# Altium footprint library EMI_FILTER.PcbLib: 28 footprints (part 1 of 2)
Each footprint in its own frame and in the unit in brackets; x right, y up, seen from the top. Pads: shape width x height; smd on the part's side, far side on the other; paste and mask are expansions set on the pad; w line width, h text height; cw(c..) or ccw(c..) is an arc to the next point about the centre after c.
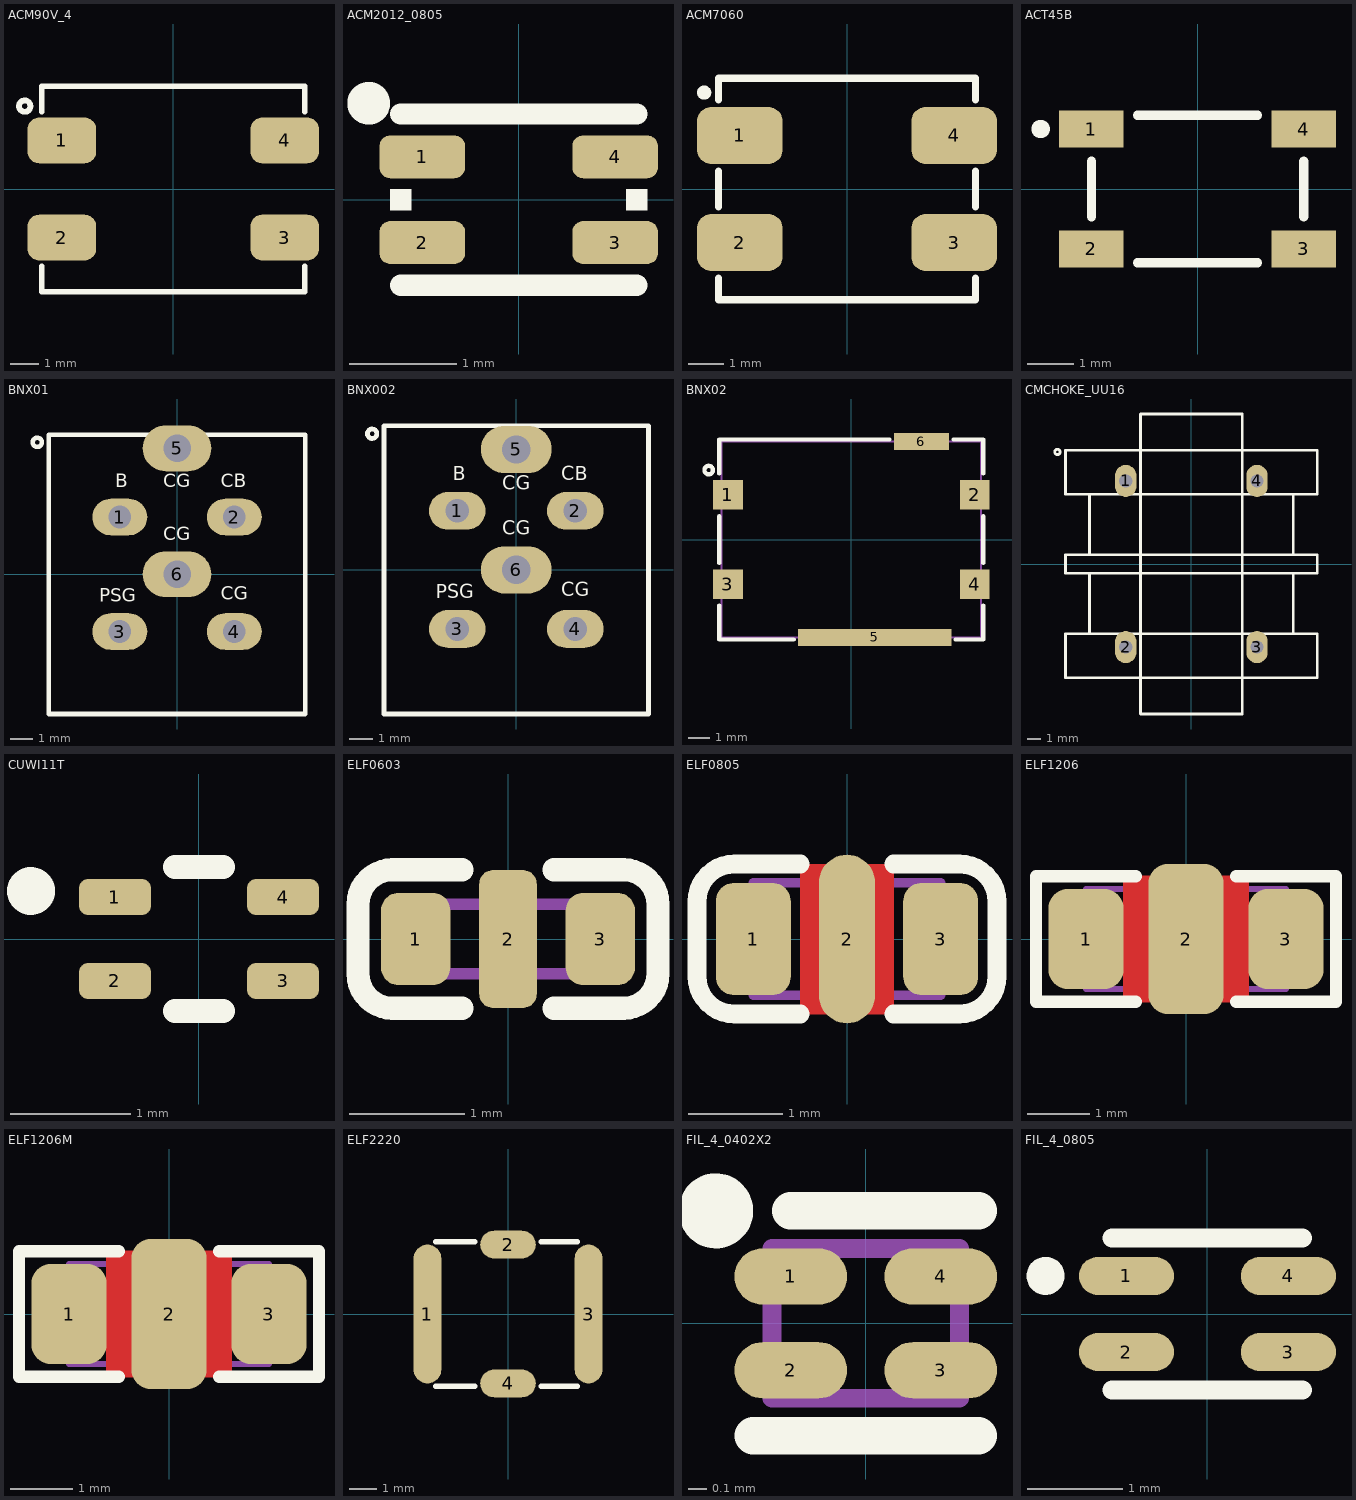
[diagram p0: the footprints below, top view; thin cyan lines are the x and y axes]

## ACM90V_4 [mm] "Common Mode Chokes TDK ACM90V 2x1.2mm"
pads (4):
  rrect50% 2.4x1.6 smd mask+0.1: 1(-3.9,1.7) 2(-3.9,-1.7) 3(3.9,-1.7) 4(3.9,1.7)
Top Overlay:
  circle w0.2: c-5.2,2.9 r0.2
  lines w0.2: -4.6,-2.7 -4.6,-3.6 4.6,-3.6 4.6,-2.7 ; -4.6,2.7 -4.6,3.6 4.6,3.6 4.6,2.7
3D body "User Library-ACM90V-701-2PL-TL00.step": height 3.68, standoff 0.02, extent -4.482,-3.5 4.483,3.5

## ACM2012_0805 [mm] "Common Mode Chokes TDK ACM2012 2x1.2mm"
pads (4):
  rrect50% 0.8x0.4 smd mask+0.1: 1(-0.9,0.4) 2(-0.9,-0.4) 3(0.9,-0.4) 4(0.9,0.4)
Top Overlay:
  circle w0.2: c-1.4,0.9 r0.1
  rectangle: -1.2,-0.1 -1,0.1
  region: 1.2,0.1 1,0.1 1,-0.1 1.2,-0.1
  lines w0.2: -1.1,-0.8 1.1,-0.8 ; -1.1,0.8 1.1,0.8
3D body "User Library-ACM2012-2P.step": height 1.3, standoff 0, extent -1,-0.6 1,0.6

## ACM7060 [mm] "Common Mode Chokes TDK ACM2012 2x1.2mm"
pads (4):
  rrect50% 2.4x1.6 smd mask+0.1: 1(-3,1.5) 2(-3,-1.5) 3(3,-1.5) 4(3,1.5)
Top Overlay:
  circle w0.2: c-4,2.7 r0.1
  lines w0.2: -3.6,-2.5 -3.6,-3.1 3.6,-3.1 3.6,-2.5 ; -3.6,-0.5 -3.6,0.5 ; -3.6,2.5 -3.6,3.1 3.6,3.1 3.6,2.5 ; 3.6,-0.5 3.6,0.5
3D body "ACM7060.step": height 3.5, standoff 0, extent -3.5,-3 3.5,3

## ACT45B [mm] "Common Mode Chokes TDK ACT45B 3.2x4.5mm"
height 2.8
pads (4):
  rect 1.4x0.8 smd: 1(-2.3,1.3) 2(-2.3,-1.3) 3(2.3,-1.3) 4(2.3,1.3)
Top Overlay:
  circle w0.2: c-3.4,1.3 r0.1
  lines w0.2: -2.3,-0.6 -2.3,0.6 ; -1.3,-1.6 1.3,-1.6 ; -1.3,1.6 1.3,1.6 ; 2.3,-0.6 2.3,0.6
3D body "User Library-ACT45B_GERMANY.step": height 3, standoff 0, extent -2.25,-1.6 2.25,1.6

## BNX01 [mm] "MURATA EMIFIL"
height 15
pads (6):
  oval 2.4x1.6 hole 1: 1(-2.5,2.5) 2(2.5,2.5) 3(-2.5,-2.5) 4(2.5,-2.5)
  oval 3x2 hole 1.2: 5(0,5.5) 6(0,0)
Top Overlay:
  circle w0.2: c-6.102,5.764 r0.2
  lines w0.2: -5.6,-6.1 -5.6,6.1 5.6,6.1 5.6,-6.1 -5.6,-6.1
  text "B" at -2.7,3.6 h1
  text "CB" at 1.9,3.6 h1
  text "CG" at 1.9,-1.3 h1
  text "PSG" at -3.4,-1.4 h1
  text "CG" at -0.6,1.3 h1
  text "CG" at -0.6,3.6 h1
3D body "User Library-BNX012-01.step": height 8, standoff -4, extent -5.5,-6 5.5,6

## BNX002 [mm] "MURATA EMIFIL"
height 15
pads (6):
  oval 2.4x1.6 hole 1: 1(-2.5,2.5) 2(2.5,2.5) 3(-2.5,-2.5) 4(2.5,-2.5)
  oval 3x2 hole 1.2: 5(0,5.1) 6(0,0)
Top Overlay:
  circle w0.2: c-6.102,5.764 r0.2
  lines w0.2: -5.6,-6.1 -5.6,6.1 5.6,6.1 5.6,-6.1 -5.6,-6.1
  text "B" at -2.7,3.6 h1
  text "CB" at 1.9,3.6 h1
  text "CG" at 1.9,-1.3 h1
  text "PSG" at -3.4,-1.4 h1
  text "CG" at -0.6,1.3 h1
  text "CG" at -0.6,3.2 h1
3D body "User Library-Murata_BNX002.STEP": height 12.5, standoff -5, extent -5.5,-6 5.5,6

## BNX02 [mm] "MURATA EMIFIL SMD 12.1x9.1x3.5mm, BNX023-01, BNX022"
height 3.1
pads (6):
  rect 1.4x1.4 smd mask+0.1: 1(-5.8,2.1) 2(5.8,2.1) 3(-5.8,-2.1) 4(5.8,-2.1)
  rect 7.2x0.8 smd: 5(1.1,-4.6)
  rect 2.6x0.8 smd: 6(3.3,4.6)
Top Overlay:
  circle w0.2: c-6.702,3.264 r0.2
  lines w0.2: -6.2,-3.1 -6.2,-4.7 -2.7,-4.7 ; -6.2,-1.1 -6.2,1.1 ; -6.2,3.1 -6.2,4.7 1.8,4.7 ; 4.8,4.7 6.2,4.7 6.2,3.1 ; 4.9,-4.7 6.2,-4.7 6.2,-3.1 ; 6.2,-1.1 6.2,1.1
Mechanical 13:
  lines w0.1: -6.1,-4.6 6.1,-4.6 6.1,4.6 -6.1,4.6 -6.1,-4.6
3D body "User Library-BNX022.step": height 3.1, standoff 0, extent -6.05,-4.55 6.05,4.55

## CMCHOKE_UU16 [mm] "COMMON MODE CHOKE, UU16, UT2024"
height 30
pads (4):
  oval 1.6x2.4 hole 1: 1(-4.9,6.2) 2(-4.9,-6.2) 3(4.9,-6.2) 4(4.9,6.2)
Top Overlay:
  circle w0.2: c-10.002,8.364 r0.2
  lines w0.2: -7.6,-5.2 -7.6,-0.7 ; -7.6,-5.2 -9.4,-5.2 -9.4,-8.5 9.4,-8.5 9.4,-5.2 7.6,-5.2 ; -7.6,-5.2 7.6,-5.2 ; -7.6,-0.7 -9.4,-0.7 -9.4,0.7 -7.6,0.7 ; -7.6,-0.7 7.6,-0.7 ; -7.6,0.7 -7.6,5.2 ; -7.6,0.7 7.6,0.7 ; -7.6,5.2 -9.4,5.2 -9.4,8.5 9.4,8.5 9.4,5.2 7.6,5.2 ; -7.6,5.2 7.6,5.2 ; 7.6,-5.2 7.6,-0.7 ; 7.6,-0.7 9.4,-0.7 9.4,0.7 7.6,0.7 ; 7.6,0.7 7.6,5.2 ; -3.8,-11.2 3.8,-11.2 3.8,11.2 -3.8,11.2 -3.8,-11.2
3D body "UU16.step": height 25.65, standoff -3.7, extent -9.35,-11.1 9.35,11.134

## CUWI11T [mm] "Common Mode Chokes CUWI11T 1x1.25mm"
height 0.8
pads (4):
  rrect50% 0.6x0.3 smd mask+0.1: 1(-0.7,0.35) 2(-0.7,-0.35) 3(0.7,-0.35) 4(0.7,0.35)
Top Overlay:
  circle w0.2: c-1.4,0.4 r0.1
  lines w0.2: -0.2,-0.6 0.2,-0.6 ; -0.2,0.6 0.2,0.6
3D body: height 0.8, standoff 0, extent -0.6,-0.5 0.6,0.5

## ELF0603 [mm] "1.6x0.8mm ELF NF MURATA EMI FILTER"
height 0.6
pads (3):
  rrect50% 0.6x0.8 smd paste-0.1 mask+0.075: 1(-0.8,0) 3(0.8,0)
  rrect50% 0.5x1.2 smd paste-0.1 mask+0.075: 2(0,0)
Top Overlay:
  lines w0.2: -0.4,-0.6 -1,-0.6 cw(c-1,-0.3) -1.3,-0.3 -1.3,0.3 cw(c-1,0.3) -1,0.6 -0.4,0.6 ; 0.4,-0.6 1,-0.6 ccw(c1,-0.3) 1.3,-0.3 1.3,0.3 ccw(c1,0.3) 1,0.6 0.4,0.6
Mechanical 13:
  lines w0.1: -0.8,-0.3 0.8,-0.3 0.8,0.3 -0.8,0.3 -0.8,-0.3
3D body "User Library-Murata_NFM18C.STEP": height 0.6, standoff 0, extent -0.8,-0.4 0.8,0.4

## ELF0805 [mm]
height 0.6
pads (3):
  rrect50% 0.8x1.2 smd paste-0.1 mask+0.075: 1(-1,0) 3(1,0)
  oval 0.6x1.8 smd paste-0.1 mask+0.075: 2(0,0)
Top Layer:
  pour cut-out: -0.5,0.8 0.5,0.8 0.5,-0.8 -0.5,-0.8
Top Overlay:
  lines w0.2: -0.5,-0.8 -1.2,-0.8 cw(c-1.2,-0.4) -1.6,-0.4 -1.6,0.4 cw(c-1.2,0.4) -1.2,0.8 -0.5,0.8 ; 0.5,-0.8 1.2,-0.8 ccw(c1.2,-0.4) 1.6,-0.4 1.6,0.4 ccw(c1.2,0.4) 1.2,0.8 0.5,0.8
Mechanical 13:
  lines w0.1: -1,-0.6 -1,0.6 1,0.6 1,-0.6 -1,-0.6
3D body "User Library-NFM21H.step": height 0.86, standoff -0.01, extent -1,-0.635 1,0.635

## ELF1206 [mm] "FV1206, LFCN"
height 2
pads (3):
  rrect50% 1.2x1.6 smd paste-0.1 mask+0.075: 1(-1.6,0) 3(1.6,0)
  rrect50% 1.2x2.4 smd paste-0.1 mask+0.075: 2(0,0)
Top Layer:
  pour cut-out: -1,1.016 1,1.016 1,-1.016 -1,-1.016
Top Overlay:
  lines w0.2: -0.8,-1 -2.4,-1 -2.4,1 -0.8,1 ; 0.8,-1 2.4,-1 2.4,1 0.8,1
Mechanical 13:
  lines w0.1: -1.6,-0.8 1.6,-0.8 1.6,0.8 -1.6,0.8 -1.6,-0.8
3D body "User Library-LFCN-900.step": height 0.94, standoff 0, extent -1.6,-0.801 1.6,0.801

## ELF1206M [mm] "MURATA Feed Through Capacitor"
height 2
pads (3):
  rrect50% 1.2x1.6 smd paste-0.1 mask+0.075: 1(-1.6,0) 3(1.6,0)
  rrect50% 1.2x2.4 smd paste-0.1 mask+0.075: 2(0,0)
Top Layer:
  pour cut-out: -1,1.016 1,1.016 1,-1.016 -1,-1.016
Top Overlay:
  lines w0.2: -0.8,-1 -2.4,-1 -2.4,1 -0.8,1 ; 0.8,-1 2.4,-1 2.4,1 0.8,1
Mechanical 13:
  lines w0.1: -1.6,-0.8 1.6,-0.8 1.6,0.8 -1.6,0.8 -1.6,-0.8
3D body "NFE31PT471F1E9L--3DModel-STEP-1.STEP": height 1.75, standoff 0, extent -1.6,-0.8 1.6,0.8

## ELF2220 [mm] "NFM46P11 5.7X5.00mm, NFM2220"
pads (4):
  oval 1x5 smd: 1(-2.9,0) 3(2.9,0)
  oval 2x1 smd: 2(0,2.5) 4(0,-2.5)
Top Overlay:
  lines w0.2: -2.6,-2.6 -1.2,-2.6 ; -2.6,2.6 -1.2,2.6 ; 1.2,-2.6 2.5,-2.6 ; 1.2,2.6 2.5,2.6
3D body: height 2.2, standoff 0, extent -2.9,-2.5 2.9,2.5

## FIL_4_0402X2 [mm] "0402X2, 0302, 0.85x0.65mm ,CommMode NoiseFilter"
height 0.4
pads (4):
  oval 0.6x0.3 smd paste-0.05 mask+0.075: 1(-0.4,0.25) 2(-0.4,-0.25) 3(0.4,-0.25) 4(0.4,0.25)
Top Overlay:
  circle w0.2: c-0.8,0.6 r0.1
  lines w0.2: -0.6,-0.6 0.6,-0.6 ; -0.4,0.6 0.6,0.6
Mechanical 13:
  lines w0.1: -0.5,-0.4 0.5,-0.4 0.5,0.4 -0.5,0.4 -0.5,-0.4
3D body: height 0.4, standoff 0, extent -0.5,-0.4 0.5,0.4

## FIL_4_0805 [mm] "EMI filter Murata, DLW21, 2X1.3mm"
pads (4):
  oval 1x0.4 smd paste-0.05 mask+0.075: 1(-0.85,0.4) 2(-0.85,-0.4) 3(0.85,-0.4) 4(0.85,0.4)
Top Overlay:
  circle w0.2: c-1.7,0.4 r0.1
  lines w0.2: -1,-0.8 1,-0.8 ; -1,0.8 1,0.8
3D body "DLW21S.step": height 1.2, standoff 0, extent -1,-0.6 1,0.6